# Altium schematic symbol library CAP_SMD.SchLib: 10 symbols
Pins are listed as number, name and electrical type; pins without a type are passive.

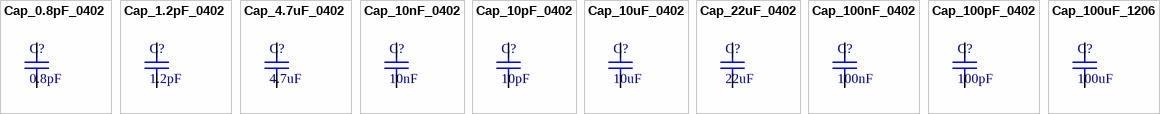
[diagram p0: symbols Cap_0.8pF_0402 to Cap_100uF_1206]

## Cap_0.8pF_0402
designator C?, comment 0.8pF
MF: Murata; MP: GRM022R60J222KE19L; SnapEDA_Link: https://www.snapeda.com/parts/GRM022R60J222KE19L/Murata/view-part/?ref=snap; Package: 0402 Murata; Value: *; Check_prices: https://www.snapeda.com/parts/GRM022R60J222KE19L/Murata/view-part/?ref=eda
footprint CAP_0402
pins: 1, 2

## Cap_1.2pF_0402
designator C?, comment 1.2pF
MF: Murata; MP: GRM022R60J222KE19L; SnapEDA_Link: https://www.snapeda.com/parts/GRM022R60J222KE19L/Murata/view-part/?ref=snap; Package: 0402 Murata; Value: *; Check_prices: https://www.snapeda.com/parts/GRM022R60J222KE19L/Murata/view-part/?ref=eda
footprint CAP_0402
pins: 1, 2

## Cap_4.7uF_0402
designator C?, comment 4.7uF
MF: Murata; MP: GRM022R60J222KE19L; SnapEDA_Link: https://www.snapeda.com/parts/GRM022R60J222KE19L/Murata/view-part/?ref=snap; Package: 0402 Murata; Value: *; Check_prices: https://www.snapeda.com/parts/GRM022R60J222KE19L/Murata/view-part/?ref=eda
footprint CAP_0402
pins: 1, 2

## Cap_10nF_0402
designator C?, comment 10nF
MF: Murata; MP: GRM022R60J222KE19L; SnapEDA_Link: https://www.snapeda.com/parts/GRM022R60J222KE19L/Murata/view-part/?ref=snap; Package: 0402 Murata; Value: *; Check_prices: https://www.snapeda.com/parts/GRM022R60J222KE19L/Murata/view-part/?ref=eda
footprint CAP_0402
pins: 1, 2

## Cap_10pF_0402
designator C?, comment 10pF
MF: Murata; MP: GRM022R60J222KE19L; SnapEDA_Link: https://www.snapeda.com/parts/GRM022R60J222KE19L/Murata/view-part/?ref=snap; Package: 0402 Murata; Value: *; Check_prices: https://www.snapeda.com/parts/GRM022R60J222KE19L/Murata/view-part/?ref=eda
footprint CAP_0402
pins: 1, 2

## Cap_10uF_0402
designator C?, comment 10uF
MF: Murata; MP: GRM022R60J222KE19L; SnapEDA_Link: https://www.snapeda.com/parts/GRM022R60J222KE19L/Murata/view-part/?ref=snap; Package: 0402 Murata; Value: *; Check_prices: https://www.snapeda.com/parts/GRM022R60J222KE19L/Murata/view-part/?ref=eda
footprint CAP_0402
pins: 1, 2

## Cap_22uF_0402
designator C?, comment 22uF
MF: Murata; MP: GRM022R60J222KE19L; SnapEDA_Link: https://www.snapeda.com/parts/GRM022R60J222KE19L/Murata/view-part/?ref=snap; Package: 0402 Murata; Value: *; Check_prices: https://www.snapeda.com/parts/GRM022R60J222KE19L/Murata/view-part/?ref=eda
footprint CAP_0402
pins: 1, 2

## Cap_100nF_0402
designator C?, comment 100nF
MF: Murata; MP: GRM022R60J222KE19L; SnapEDA_Link: https://www.snapeda.com/parts/GRM022R60J222KE19L/Murata/view-part/?ref=snap; Package: 0402 Murata; Value: *; Check_prices: https://www.snapeda.com/parts/GRM022R60J222KE19L/Murata/view-part/?ref=eda
footprint CAP_0402
pins: 1, 2

## Cap_100pF_0402
designator C?, comment 100pF
MF: Murata; MP: GRM022R60J222KE19L; SnapEDA_Link: https://www.snapeda.com/parts/GRM022R60J222KE19L/Murata/view-part/?ref=snap; Package: 0402 Murata; Value: *; Check_prices: https://www.snapeda.com/parts/GRM022R60J222KE19L/Murata/view-part/?ref=eda
footprint CAP_0402
pins: 1, 2

## Cap_100uF_1206
designator C?, comment 100uF
MF: Murata; MP: GRM022R60J222KE19L; SnapEDA_Link: https://www.snapeda.com/parts/GRM022R60J222KE19L/Murata/view-part/?ref=snap; Package: 0402 Murata; Value: *; Check_prices: https://www.snapeda.com/parts/GRM022R60J222KE19L/Murata/view-part/?ref=eda
footprint CAP_3216(1206)
pins: 1, 2